# EAGLE library part SI8261 (library Power > Gate Drivers)
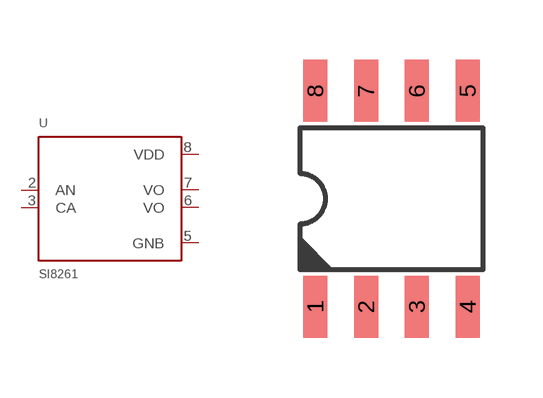
[diagram p1: symbol with the pads of SOIC_8; footprint SOIC_8]

Designator prefix U

## SI8261  [SOIC_8]
2  AN
3  CA
5  GNB
6  VO
7  VO
8  VDD

## Footprint SOIC_8 (pad centres in mm)
8-Lead Plastic Small Outline (SN) - Narrow, 3.90 mm Body [SOIC]
smd 0.6 x 1.55: 1 -1.905,-2.7; 2 -0.635,-2.7; 3 0.635,-2.7; 4 1.905,-2.7; 5 1.905,2.7; 6 0.635,2.7; 7 -0.635,2.7; 8 -1.905,2.7